# EAGLE library part ENCODER (library enc)
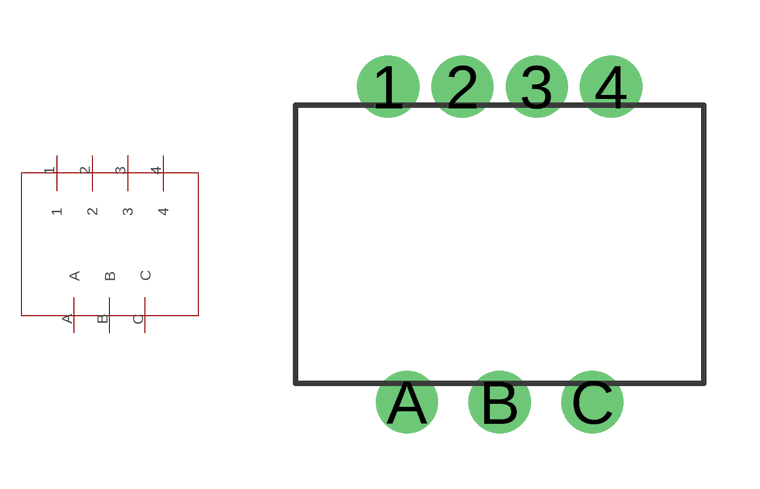
[diagram p0: symbol with the pads of ENCODER; footprint ENCODER]

Designator prefix ENC

## ENCODER  [ENCODER]
1  1
2  2
3  3
4  4
A  A
B  B
C  C

## Footprint ENCODER (pad centres in mm)
drill 1 pad 1.676: 1 -3,4; 2 -1,4; 3 1,4; 4 3,4; A -2.5,-4.5; B 0,-4.5; C 2.5,-4.5